# Altium footprint library Generic PMD.PcbLib: 85 footprints (part 1 of 6)
Each footprint in its own frame and in the unit in brackets; x right, y up, seen from the top. Pads: shape width x height; smd on the part's side, far side on the other; paste and mask are expansions set on the pad; w line width, h text height; cw(c..) or ccw(c..) is an arc to the next point about the centre after c.
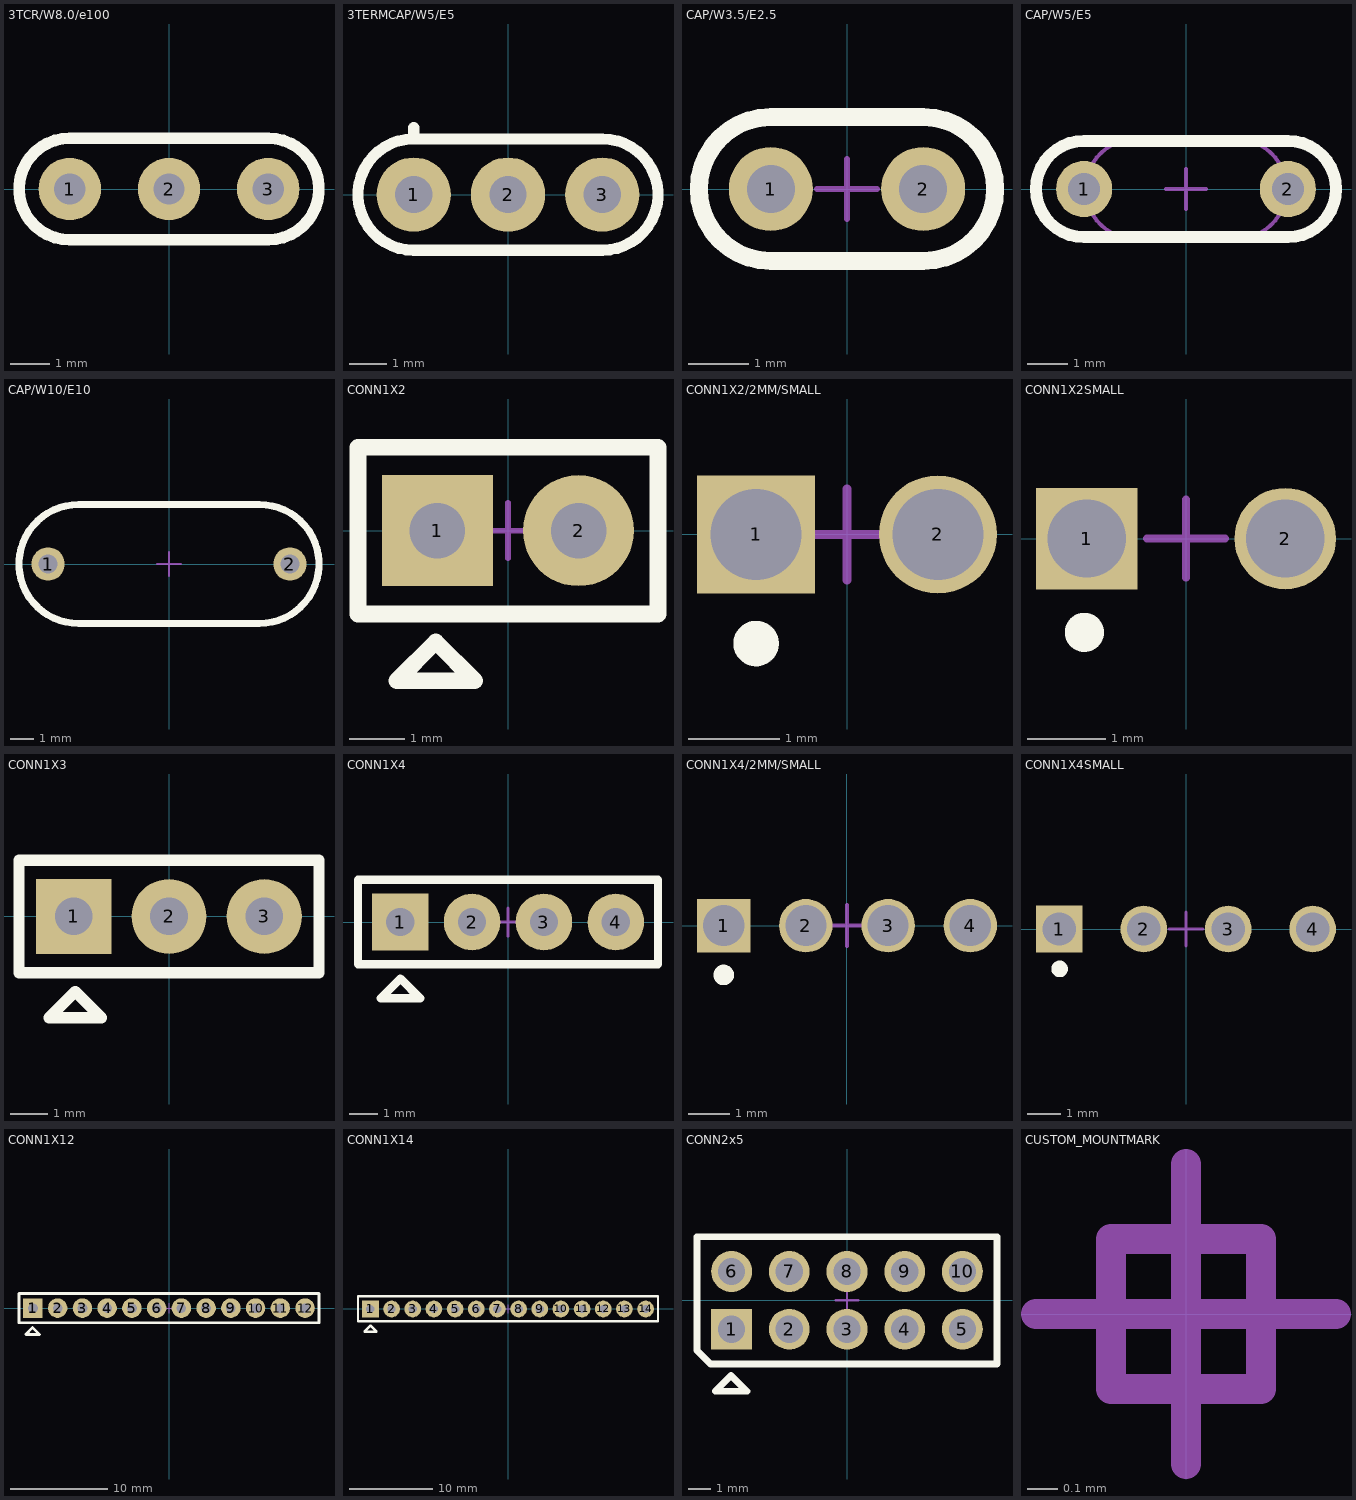
[diagram p0: the footprints below, top view; thin cyan lines are the x and y axes]

## 3TCR/W8.0/e100 [mm] "Generic 3Terminal Resonator; Body 8.0x3.0x5.5mm; Pitch 100mil/2.54mm"
height 5.5
pads (3):
  round 1.6 hole 0.8: 1(-2.54,0) 2(0,0) 3(2.54,0)
Top Overlay:
  lines w0.3: -2.54,-1.3 cw(c-2.54,0) -2.54,1.3 2.54,1.3 cw(c2.54,0) 2.54,-1.3 -2.54,-1.3
Courtyard:
  lines w0.1: -0.5,0 0.5,0 ; 0,-0.5 0,0.5

## 3TERMCAP/W5/E5 [mm] "Generic Capacitor; Body Width 5mm; Pitch 100mil/2.54mm"
height 7
pads (3):
  round 2 hole 1: 1(-2.54,0) 2(0,0) 3(2.54,0)
Top Overlay:
  lines w0.3: -2.54,1.8 -2.54,1.5 ; -2.54,1.5 ccw(c-2.54,0) -2.54,-1.5 2.54,-1.5 ccw(c2.54,0) 2.54,1.5 -2.54,1.5
Courtyard:
  lines w0.1: -0.5,0 0.5,0 ; 0,-0.5 0,0.5

## CAP/W3.5/E2.5 [mm] "Generic Capacitor; Body Width 3.5mm; Pitch 100mil/2.54mm"
height 6.3
pads (2):
  round 1.4 hole 0.8: 1(-1.27,0) 2(1.27,0)
Top Overlay:
  lines w0.3: -1.27,-1.2 cw(c-1.27,0) -1.27,1.2 1.27,1.2 cw(c1.27,0) 1.27,-1.2 -1.27,-1.2
Package:
  lines w0.1: -1.25,-1.25 cw(c-1.25,0) -1.25,1.25 1.25,1.25 cw(c1.25,0) 1.25,-1.25 -1.25,-1.25
Courtyard:
  lines w0.1: -0.5,0 0.5,0 ; 0,-0.5 0,0.5
3D body: height 6.3, standoff 1.8, extent -2.5,-1.25 2.5,1.25

## CAP/W5/E5 [mm] "Generic Capacitor; Body Width 5mm; Pitch 200mil/5.08mm"
height 5
pads (2):
  round 1.4 hole 0.8: 1(-2.54,0) 2(2.54,0)
Top Overlay:
  lines w0.3: -2.54,-1.2 cw(c-2.54,0) -2.54,1.2 2.54,1.2 cw(c2.54,0) 2.54,-1.2 -2.54,-1.2
Package:
  lines w0.1: -1.25,-1.25 cw(c-1.25,0) -1.25,1.25 1.25,1.25 cw(c1.25,0) 1.25,-1.25 -1.25,-1.25
Courtyard:
  lines w0.1: -0.5,0 0.5,0 ; 0,-0.5 0,0.5
3D body: height 6.3, standoff 1.8, extent -2.5,-1.25 2.5,1.25

## CAP/W10/E10 [mm] "Generic Capacitor; Body Width 10mm; Pitch 400mil/10.16mm"
height 5
pads (2):
  round 1.4 hole 0.8: 1(-5.08,0) 2(5.08,0)
Top Overlay:
  lines w0.3: -3.8,-2.5 cw(c-3.8,0) -3.8,2.5 3.8,2.5 cw(c3.8,0) 3.8,-2.5 -3.8,-2.5
Package:
  lines w0.1: -3.75,-2.5 cw(c-3.75,0) -3.75,2.5 3.75,2.5 cw(c3.75,0) 3.75,-2.5 -3.75,-2.5
Courtyard:
  lines w0.1: -0.5,0 0.5,0 ; 0,-0.5 0,0.5
3D body: height 12.5, standoff 1.5, extent -6.25,-2.5 6.25,2.5

## CONN1X2 [mm] "Generic Connector 1x2; Pitch 100mil"
pads (2):
  rect 2x2 hole 1: 1(-1.27,0)
  round 2 hole 1: 2(1.27,0)
Top Overlay:
  lines w0.3: -2.7,-1.5 2.7,-1.5 2.7,1.5 -2.7,1.5 -2.7,-1.5 ; -2,-2.7 -0.6,-2.7 -1.3,-2 -2,-2.7
Courtyard:
  lines w0.1: -0.5,0 0.5,0 ; 0,-0.5 0,0.5

## CONN1X2/2MM/SMALL [mm] "Generic Connector 1x2; Pitch 100mil"
pads (2):
  rect 1.3x1.3 hole 1: 1(-1,0)
  round 1.3 hole 1: 2(1,0)
Top Overlay:
  circle w0.3: c-1,-1.2 r0.1
Courtyard:
  lines w0.1: -0.5,0 0.5,0 ; 0,-0.5 0,0.5

## CONN1X2SMALL [mm] "Generic Connector 1x2; Pitch 100mil"
pads (2):
  rect 1.3x1.3 hole 1: 1(-1.27,0)
  round 1.3 hole 1: 2(1.27,0)
Top Overlay:
  circle w0.3: c-1.3,-1.2 r0.1
Courtyard:
  lines w0.1: -0.5,0 0.5,0 ; 0,-0.5 0,0.5

## CONN1X3 [mm] "Generic Connector 1x3; Pitch 100mil"
pads (3):
  rect 2x2 hole 1: 1(-2.54,0)
  round 2 hole 1: 2(0,0) 3(2.54,0)
Top Overlay:
  lines w0.3: -4,-1.5 4,-1.5 4,1.5 -4,1.5 -4,-1.5 ; -3.2,-2.7 -1.8,-2.7 -2.5,-2 -3.2,-2.7
Courtyard:
  lines w0.1: -0.5,0 0.5,0 ; 0,-0.5 0,0.5

## CONN1X4 [mm] "Generic Connector 1x4; Pitch 100mil"
pads (4):
  rect 2x2 hole 1: 1(-3.81,0)
  round 2 hole 1: 2(-1.27,0) 3(1.27,0) 4(3.81,0)
Top Overlay:
  lines w0.3: -5.3,-1.5 -5.3,1.5 5.3,1.5 5.3,-1.5 -5.3,-1.5 ; -4.5,-2.7 -3.8,-2 -3.1,-2.7 -4.5,-2.7
Courtyard:
  lines w0.1: -0.5,0 0.5,0 ; 0,-0.5 0,0.5

## CONN1X4/2MM/SMALL [mm] "Generic Connector 1x4; Pitch 2mm."
pads (4):
  rect 1.3x1.3 hole 1: 1(-3,0)
  round 1.3 hole 1: 2(-1,0) 3(1,0) 4(3,0)
Top Overlay:
  circle w0.3: c-3,-1.2 r0.1
Courtyard:
  lines w0.1: -0.5,0 0.5,0 ; 0,-0.5 0,0.5

## CONN1X4SMALL [mm] "Generic Connector 1x4; Pitch 100mil"
pads (4):
  rect 1.4x1.4 hole 1: 1(-3.81,0)
  round 1.4 hole 1: 2(-1.27,0) 3(1.27,0) 4(3.81,0)
Top Overlay:
  circle w0.3: c-3.8,-1.2 r0.1
Courtyard:
  lines w0.1: -0.5,0 0.5,0 ; 0,-0.5 0,0.5

## CONN1X12 [mm] "Generic Connector 1x12; Pitch 100mil"
pads (12):
  rect 2x2 hole 1: 1(-13.97,0)
  round 2 hole 1: 2(-11.43,0) 3(-8.89,0) 4(-6.35,0) 5(-3.81,0) 6(-1.27,0) 7(1.27,0) 8(3.81,0) 9(6.35,0) 10(8.89,0) 11(11.43,0) 12(13.97,0)
Top Overlay:
  lines w0.3: -15.4,-1.5 -15.4,1.5 15.4,1.5 15.4,-1.5 -15.4,-1.5 ; -14.7,-2.7 -13.3,-2.7 -14,-2 -14.7,-2.7
Courtyard:
  lines w0.1: -0.5,0 0.5,0 ; 0,-0.5 0,0.5

## CONN1X14 [mm] "Generic Connector 1x14; Pitch 100mil"
pads (14):
  rect 2x2 hole 1 mask+0.1: 1(-16.51,0)
  round 2 hole 1 mask+0.1: 2(-13.97,0) 3(-11.43,0) 4(-8.89,0) 5(-6.35,0) 6(-3.81,0) 7(-1.27,0) 8(1.27,0) 9(3.81,0) 10(6.35,0) 11(8.89,0) 12(11.43,0) 13(13.97,0) 14(16.51,0)
Top Overlay:
  lines w0.3: -18,-1.5 -18,1.5 18,1.5 18,-1.5 -18,-1.5 ; -17.2,-2.7 -15.8,-2.7 -16.5,-2 -17.2,-2.7
Courtyard:
  lines w0.1: -0.5,0 0.5,0 ; 0,-0.5 0,0.5

## CONN2x5 [mm] "Generic Connector 2x5; Pitch 100mil"
pads (10):
  rect 1.8x1.8 hole 1.2: 1(-5.08,-1.27)
  round 1.8 hole 1.2: 2(-2.54,-1.27) 3(0,-1.27) 4(2.54,-1.27) 5(5.08,-1.27) 6(-5.08,1.27) 7(-2.54,1.27) 8(0,1.27) 9(2.54,1.27) 10(5.08,1.27)
Top Overlay:
  lines w0.3: -6.6,-2.2 -6,-2.8 6.6,-2.8 6.6,2.8 -6.6,2.8 -6.6,-2.2 ; -5.8,-4 -5.1,-3.3 -4.4,-4 -5.8,-4
Courtyard:
  lines w0.1: -0.5,0 0.5,0 ; 0,-0.5 0,0.5

## CUSTOM_MOUNTMARK [mm]
Courtyard:
  lines w0.1: -0.5,0 0.5,0 ; 0,-0.5 0,0.5 ; -0.25,-0.25 -0.25,0.25 0.25,0.25 0.25,-0.25 -0.25,-0.25